# EAGLE library part S2525F8-BD-RTKEVB (library SlideSentinel)
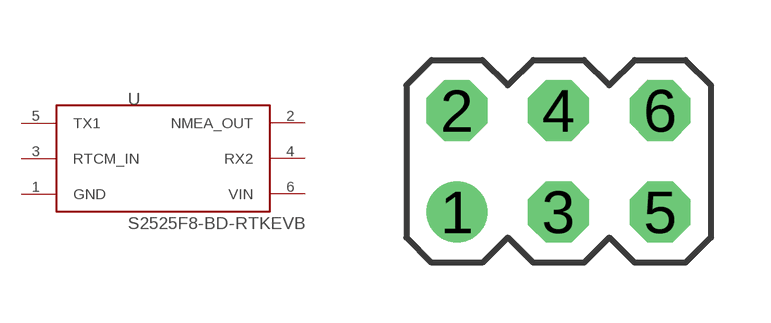
[diagram p0: symbol with the pads of MA03-2; footprint MA03-2]

Designator prefix -

## S2525F8-BD-RTKEVB  [MA03-2]
1  GND
2  NMEA_OUT
3  RTCM_IN
4  RX2
5  TX1
6  VIN

## Footprint MA03-2 (pad centres in mm)
PIN HEADER
drill 1.016: 1 -2.54,-1.27
drill 1.016 octagon: 2 -2.54,1.27; 3 0,-1.27; 4 0,1.27; 5 2.54,-1.27; 6 2.54,1.27